# EAGLE library part F-2X24- (library con-headers-jp)
FEMALE HEADER
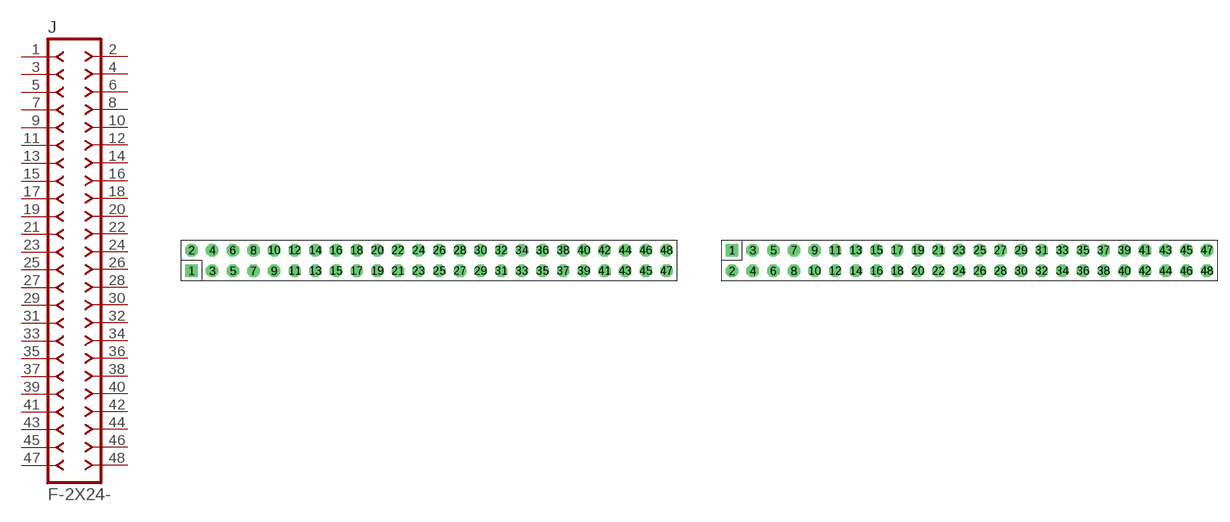
[diagram p41: symbol with the pads of DIL-100-2X24; footprints DIL-100-2X24, DIL-100-2X24_M]

Designator prefix J

## F-2X24-DIL-100  [DIL-100-2X24]
1  1  pas
2  2  pas
3  3  pas
4  4  pas
5  5  pas
6  6  pas
7  7  pas
8  8  pas
9  9  pas
10  10  pas
11  11  pas
12  12  pas
13  13  pas
14  14  pas
15  15  pas
16  16  pas
17  17  pas
18  18  pas
19  19  pas
20  20  pas
21  21  pas
22  22  pas
23  23  pas
24  24  pas
25  25  pas
26  26  pas
27  27  pas
28  28  pas
29  29  pas
30  30  pas
31  31  pas
32  32  pas
33  33  pas
34  34  pas
35  35  pas
36  36  pas
37  37  pas
38  38  pas
39  39  pas
40  40  pas
41  41  pas
42  42  pas
43  43  pas
44  44  pas
45  45  pas
46  46  pas
47  47  pas
48  48  pas

## F-2X24-DIL-100_M  [DIL-100-2X24_M]
Pads as for DIL-100-2X24

## F-2X24-DIL-2MM  [DIL-2MM-2X24]
Pads as for DIL-100-2X24

## F-2X24-DIL-2MM_M  [DIL-2MM-2X24_M]
Pads as for DIL-100-2X24

## Footprint DIL-100-2X24 (pad centres in mm)
PIN HEADER - 0.1"
drill 1.016 square: 1 -29.21,-1.27
drill 1.016 octagon: 2 -29.21,1.27; 3 -26.67,-1.27; 4 -26.67,1.27; 5 -24.13,-1.27; 6 -24.13,1.27; 7 -21.59,-1.27; 8 -21.59,1.27; 9 -19.05,-1.27; 10 -19.05,1.27; 11 -16.51,-1.27; 12 -16.51,1.27; 13 -13.97,-1.27; 14 -13.97,1.27; 15 -11.43,-1.27; 16 -11.43,1.27; 17 -8.89,-1.27; 18 -8.89,1.27; 19 -6.35,-1.27; 20 -6.35,1.27; 21 -3.81,-1.27; 22 -3.81,1.27; 23 -1.27,-1.27; 24 -1.27,1.27; 25 1.27,-1.27; 26 1.27,1.27; 27 3.81,-1.27; 28 3.81,1.27; 29 6.35,-1.27; 30 6.35,1.27; 31 8.89,-1.27; 32 8.89,1.27; 33 11.43,-1.27; 34 11.43,1.27; 35 13.97,-1.27; 36 13.97,1.27; 37 16.51,-1.27; 38 16.51,1.27; 39 19.05,-1.27; 40 19.05,1.27; 41 21.59,-1.27; 42 21.59,1.27; 43 24.13,-1.27; 44 24.13,1.27; 45 26.67,-1.27; 46 26.67,1.27; 47 29.21,-1.27; 48 29.21,1.27

## Footprint DIL-100-2X24_M (pad centres in mm)
PIN HEADER - MIRRORED 0.1"
drill 1.016 square: 1 -29.21,1.27
drill 1.016 octagon: 2 -29.21,-1.27; 3 -26.67,1.27; 4 -26.67,-1.27; 5 -24.13,1.27; 6 -24.13,-1.27; 7 -21.59,1.27; 8 -21.59,-1.27; 9 -19.05,1.27; 10 -19.05,-1.27; 11 -16.51,1.27; 12 -16.51,-1.27; 13 -13.97,1.27; 14 -13.97,-1.27; 15 -11.43,1.27; 16 -11.43,-1.27; 17 -8.89,1.27; 18 -8.89,-1.27; 19 -6.35,1.27; 20 -6.35,-1.27; 21 -3.81,1.27; 22 -3.81,-1.27; 23 -1.27,1.27; 24 -1.27,-1.27; 25 1.27,1.27; 26 1.27,-1.27; 27 3.81,1.27; 28 3.81,-1.27; 29 6.35,1.27; 30 6.35,-1.27; 31 8.89,1.27; 32 8.89,-1.27; 33 11.43,1.27; 34 11.43,-1.27; 35 13.97,1.27; 36 13.97,-1.27; 37 16.51,1.27; 38 16.51,-1.27; 39 19.05,1.27; 40 19.05,-1.27; 41 21.59,1.27; 42 21.59,-1.27; 43 24.13,1.27; 44 24.13,-1.27; 45 26.67,1.27; 46 26.67,-1.27; 47 29.21,1.27; 48 29.21,-1.27

## Footprint DIL-2MM-2X24 (pad centres in mm)
PIN HEADER - 2MM
drill 0.711 square: 1 -23,-1
drill 0.711: 2 -23,1; 3 -21,-1; 4 -21,1; 5 -19,-1; 6 -19,1; 7 -17,-1; 8 -17,1; 9 -15,-1; 10 -15,1; 11 -13,-1; 12 -13,1; 13 -11,-1; 14 -11,1; 15 -9,-1; 16 -9,1; 17 -7,-1; 18 -7,1; 19 -5,-1; 20 -5,1; 21 -3,-1; 22 -3,1; 23 -1,-1; 24 -1,1; 25 1,-1; 26 1,1; 27 3,-1; 28 3,1; 29 5,-1; 30 5,1; 31 7,-1; 32 7,1; 33 9,1; 34 9,-1; 35 11,1; 36 11,-1; 37 13,1; 38 13,-1; 39 15,1; 40 15,-1; 41 17,-1; 42 17,1; 43 19,-1; 44 19,1; 45 21,1; 46 21,-1; 47 23,1; 48 23,-1

## Footprint DIL-2MM-2X24_M (pad centres in mm)
PIN HEADER - MIRRORED 2MM
drill 0.711 square: 1 -23,1
drill 0.711: 2 -23,-1; 3 -21,1; 4 -21,-1; 5 -19,1; 6 -19,-1; 7 -17,1; 8 -17,-1; 9 -15,1; 10 -15,-1; 11 -13,1; 12 -13,-1; 13 -11,1; 14 -11,-1; 15 -9,1; 16 -9,-1; 17 -7,1; 18 -7,-1; 19 -5,1; 20 -5,-1; 21 -3,1; 22 -3,-1; 23 -1,1; 24 -1,-1; 25 1,1; 26 1,-1; 27 3,1; 28 3,-1; 29 5,1; 30 5,-1; 31 7,1; 32 7,-1; 33 9,-1; 34 9,1; 35 11,-1; 36 11,1; 37 13,-1; 38 13,1; 39 15,-1; 40 15,1; 41 17,1; 42 17,-1; 43 19,1; 44 19,-1; 45 21,-1; 46 21,1; 47 23,-1; 48 23,1